# Altium schematic symbol library Seeed-OPL-Resistor.SCHLIB: 324 symbols
Pins are listed as number, name and electrical type; pins without a type are passive.

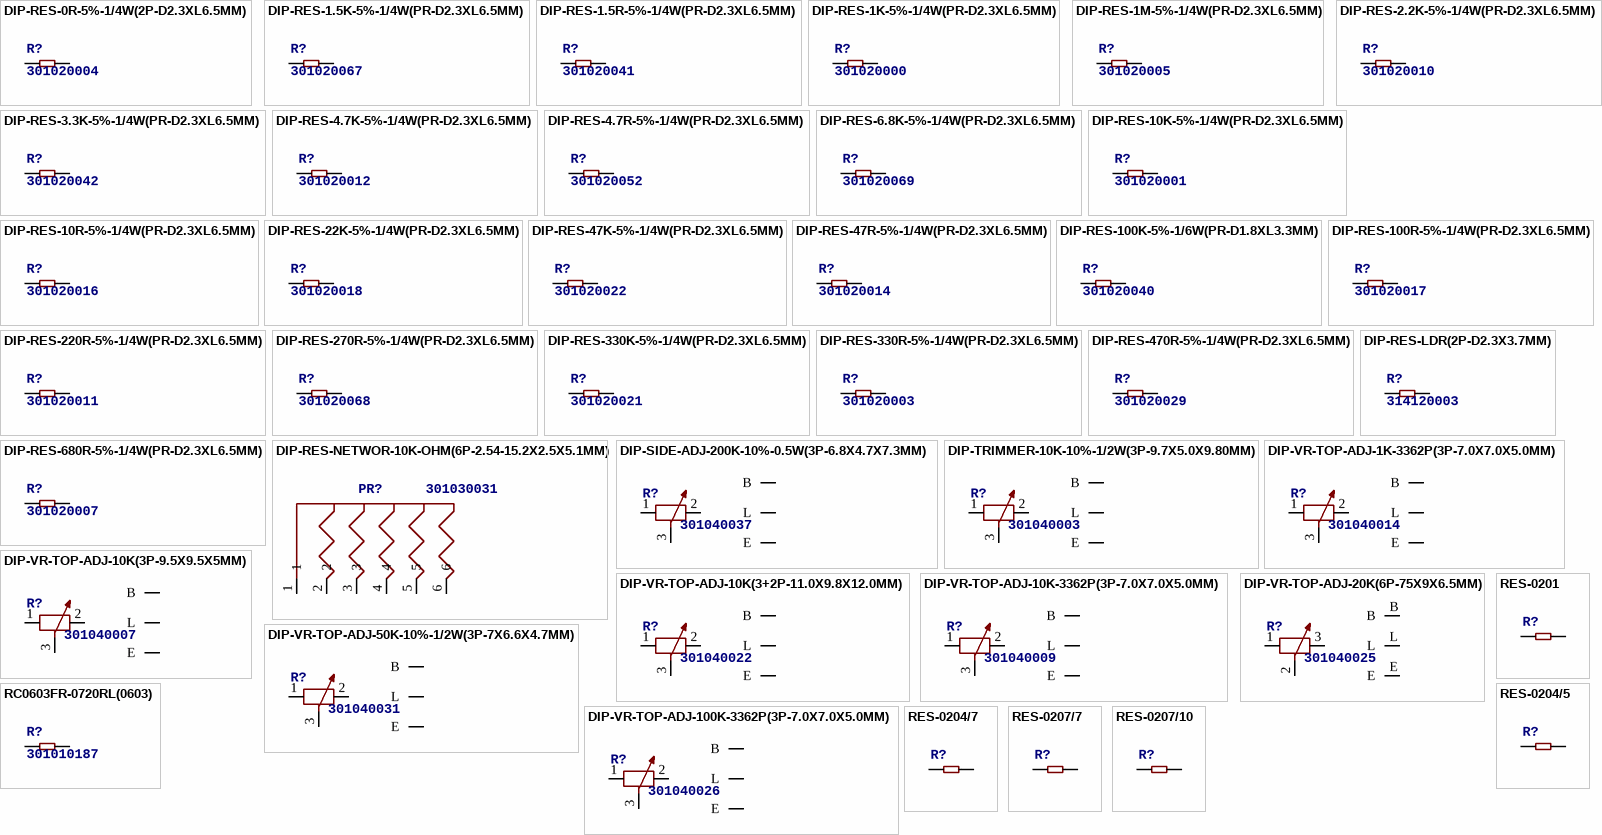
[diagram p0: symbols DIP-RES-0R-5%-1/4W(2P-D2.3XL6.5MM) to RES-0207/10]

## DIP-RES-0R-5%-1/4W(2P-D2.3XL6.5MM)
designator R?, comment 301020004
MPN: FHCFR-1/4W-000J
footprint PR-D2.3XL6.5MM
pins: 1, 2

## DIP-RES-1.5K-5%-1/4W(PR-D2.3XL6.5MM)
designator R?, comment 301020067
MPN: FHCFR-1/4W-152J
footprint PR-D2.3XL6.5MM
pins: 1, 2

## DIP-RES-1.5R-5%-1/4W(PR-D2.3XL6.5MM)
designator R?, comment 301020041
MPN: FHCFR-1/4W-1R5J
footprint PR-D2.3XL6.5MM
pins: 1, 2

## DIP-RES-1K-5%-1/4W(PR-D2.3XL6.5MM)
designator R?, comment 301020000
MPN: FHCFR-1/4W-102J
footprint PR-D2.3XL6.5MM
pins: 1, 2

## DIP-RES-1M-5%-1/4W(PR-D2.3XL6.5MM)
designator R?, comment 301020005
MPN: FHCFR-1/4W-105J
footprint PR-D2.3XL6.5MM
pins: 1, 2

## DIP-RES-2.2K-5%-1/4W(PR-D2.3XL6.5MM)
designator R?, comment 301020010
MPN: FHCFR-1/4W-222J
footprint PR-D2.3XL6.5MM
pins: 1, 2

## DIP-RES-3.3K-5%-1/4W(PR-D2.3XL6.5MM)
designator R?, comment 301020042
MPN: FHCFR-1/4W-332J
footprint PR-D2.3XL6.5MM
pins: 1, 2

## DIP-RES-4.7K-5%-1/4W(PR-D2.3XL6.5MM)
designator R?, comment 301020012
MPN: FHCFR-1/4W-472J
footprint PR-D2.3XL6.5MM
pins: 1, 2

## DIP-RES-4.7R-5%-1/4W(PR-D2.3XL6.5MM)
designator R?, comment 301020052
MPN: FHCFR-1/4W-4R7J
footprint PR-D2.3XL6.5MM
pins: 1, 2

## DIP-RES-6.8K-5%-1/4W(PR-D2.3XL6.5MM)
designator R?, comment 301020069
MPN: FHCFR-1/4W-682J
footprint PR-D2.3XL6.5MM
pins: 1, 2

## DIP-RES-10K-5%-1/4W(PR-D2.3XL6.5MM)
designator R?, comment 301020001
footprint PR-D2.3XL6.5MM
pins: 1, 2

## DIP-RES-10R-5%-1/4W(PR-D2.3XL6.5MM)
designator R?, comment 301020016
MPN: FHCFR-1/4W-100J
footprint PR-D2.3XL6.5MM
pins: 1, 2

## DIP-RES-22K-5%-1/4W(PR-D2.3XL6.5MM)
designator R?, comment 301020018
MPN: FHCFR-1/4W-223J
footprint PR-D2.3XL6.5MM
pins: 1, 2

## DIP-RES-47K-5%-1/4W(PR-D2.3XL6.5MM)
designator R?, comment 301020022
MPN: FHCFR-1/4W-473J
footprint PR-D2.3XL6.5MM
pins: 1, 2

## DIP-RES-47R-5%-1/4W(PR-D2.3XL6.5MM)
designator R?, comment 301020014
MPN: FHCFR-1/4W-470J
footprint PR-D2.3XL6.5MM
pins: 1, 2

## DIP-RES-100K-5%-1/6W(PR-D1.8XL3.3MM)
designator R?, comment 301020040
MPN: FHCFR-1/6W-104J--
footprint PR-D1.8*L3.3MM
pins: 5 2, 6 1

## DIP-RES-100R-5%-1/4W(PR-D2.3XL6.5MM)
designator R?, comment 301020017
MPN: FHCFR-1/4W-101J
footprint PR-D2.3XL6.5MM
pins: 1, 2

## DIP-RES-220R-5%-1/4W(PR-D2.3XL6.5MM)
designator R?, comment 301020011
MPN: FHCFR-1/4W-221J
footprint PR-D2.3XL6.5MM
pins: 1, 2

## DIP-RES-270R-5%-1/4W(PR-D2.3XL6.5MM)
designator R?, comment 301020068
MPN: FHCFR-1/4W-271J
footprint PR-D2.3XL6.5MM
pins: 1, 2

## DIP-RES-330K-5%-1/4W(PR-D2.3XL6.5MM)
designator R?, comment 301020021
MPN: FHCFR-1/4W-334J
footprint PR-D2.3XL6.5MM
pins: 1, 2

## DIP-RES-330R-5%-1/4W(PR-D2.3XL6.5MM)
designator R?, comment 301020003
MPN: FHCFR-1/4W-331J
footprint PR-D2.3XL6.5MM
pins: 1, 2

## DIP-RES-470R-5%-1/4W(PR-D2.3XL6.5MM)
designator R?, comment 301020029
MPN: FHCFR-1/4W-471J
footprint PR-D2.3XL6.5MM
pins: 1, 2

## DIP-RES-680R-5%-1/4W(PR-D2.3XL6.5MM)
designator R?, comment 301020007
MPN: FHCFR-1/4W-681J
footprint PR-D2.3XL6.5MM
pins: 1, 2

## DIP-RES-LDR(2P-D2.3X3.7MM)
designator R?, comment 314120003
MPN: LDR-VT90N2
footprint PR-2.8-4.2X4.9MM
pins: 1, 2

## DIP-RES-NETWOR-10K-OHM(6P-2.54-15.2X2.5X5.1MM)
designator PR?, comment 301030031
MPN: 4606X-101-RC
footprint PR6-2.54-15.2X2.5X5.1MM
pins: 1, 2, 3, 4, 5, 6

## DIP-SIDE-ADJ-200K-10%-0.5W(3P-6.8X4.7X7.3MM)
designator R?, comment 301040037
MPN: JML3266W-200K
footprint ADJR3-6.8X4.7X7.3MM
pins: 1, 2 3, 3 2, ?1 B, ?2 L, ?3 E

## DIP-TRIMMER-10K-10%-1/2W(3P-9.7X5.0X9.80MM)
designator R?, comment 301040003
MPN: T93YA103KT20
footprint ADJRP3-9.70XW5.0X9.80MM
pins: 1, 2 3, 3 2, ?1 B, ?2 L, ?3 E

## DIP-VR-TOP-ADJ-1K-3362P(3P-7.0X7.0X5.0MM)
designator R?, comment 301040014
MPN: SX3362P
footprint ADJR3-7.0X7.0X5.0MM
pins: 1, 2 3, 3 2, ?1 B, ?2 L, ?3 E

## DIP-VR-TOP-ADJ-10K(3+2P-11.0X9.8X12.0MM)
designator R?, comment 301040022
MPN: WH09-2-103
footprint ADJR2+3P-11.0X9.8X12.0MM
pins: 1, 2 3, 3 2, ?1 B, ?2 L, ?3 E

## DIP-VR-TOP-ADJ-10K(3P-9.5X9.5X5MM)
designator R?, comment 301040007
MPN: 3386U-103
footprint ADJR3-9.5X9.5X10.5MM
pins: 1, 2 3, 3 2, ?1 B, ?2 L, ?3 E

## DIP-VR-TOP-ADJ-10K-3362P(3P-7.0X7.0X5.0MM)
designator R?, comment 301040009
MPN: SX3362P
footprint ADJR3-7.0X7.0X5.0MM
pins: 1, 2 3, 3 2, ?1 B, ?2 L, ?3 E

## DIP-VR-TOP-ADJ-20K(6P-75X9X6.5MM)
designator R?, comment 301040025
MPN: PTL60-10O0-203B2
footprint ADJR6-75X9X7MM
pins: 1, 2, 3, B, E, L

## DIP-VR-TOP-ADJ-50K-10%-1/2W(3P-7X6.6X4.7MM)
designator R?, comment 301040031
MPN: 3362P-1-503LF
footprint ADJR3-2.54-7X6.6X4.7MM
pins: 1, 2 3, 3 2, ?1 B, ?2 L, ?3 E

## DIP-VR-TOP-ADJ-100K-3362P(3P-7.0X7.0X5.0MM)
designator R?, comment 301040026
MPN: SX3362P
footprint ADJR3-7.0X7.0X5.0MM
pins: 1, 2 3, 3 2, ?1 B, ?2 L, ?3 E

## RC0603FR-0720RL(0603)
designator R?, comment 301010187
MPN: RC0603FR-07270KL
footprint R0603
pins: 1, 2

## RES-0201
designator R?
footprint R0201
pins: 1, 2

## RES-0204/5
designator R?
footprint PR-D1.8*L3.3MM
pins: 5 2, 6 1

## RES-0204/7
designator R?
footprint R0204_7
pins: 1, 2

## RES-0207/7
designator R?
footprint R0207_7
pins: 1, 2

## RES-0207/10
designator R?
footprint PR-D2.3XL6.5MM
pins: 1, 2

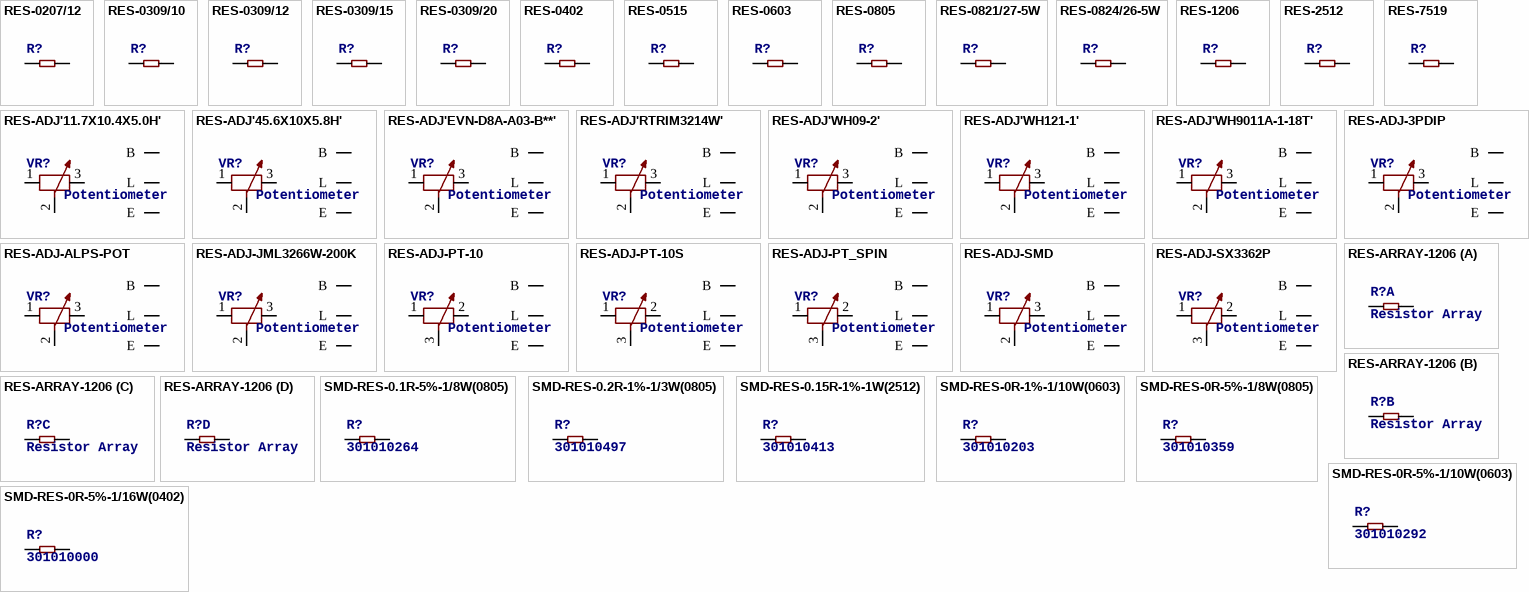
[diagram p1: symbols RES-0207/12 to SMD-RES-0R-5%-1/16W(0402)]

## RES-0207/12
designator R?
footprint R0207_12
pins: 1, 2

## RES-0309/10
designator R?
footprint R0309_10
pins: 1, 2

## RES-0309/12
designator R?
footprint R0309_12
pins: 1, 2

## RES-0309/15
designator R?
footprint R0309_15
pins: 1, 2

## RES-0309/20
designator R?
footprint R0309_20
pins: 1, 2

## RES-0402
designator R?
footprint R0402
pins: 1, 2

## RES-0515
designator R?
footprint R0515_20.4
pins: P$1 1, P$2 2

## RES-0603
designator R?
footprint R0603
pins: 1, 2

## RES-0805
designator R?
footprint R0805
pins: 1, 2

## RES-0821/27-5W
designator R?
footprint R0821_27
pins: P$1 1, P$2 2

## RES-0824/26-5W
designator R?
footprint R0824_26
pins: 1, 2

## RES-1206
designator R?
footprint R1206
pins: 1, 2

## RES-2512
designator R?
footprint R2512
pins: 1, 2

## RES-7519
designator R?
footprint R7519_60.4
pins: 1 2 1, 3 4 2

## RES-ADJ'11.7X10.4X5.0H'
designator VR?, comment Potentiometer
footprint ADJR2+3P-11.7X10.4X5.0MM
pins: 1, 2, 3, ?1 B, ?2 L, ?3 E

## RES-ADJ'45.6X10X5.8H'
designator VR?, comment Potentiometer
footprint ADJR3-45.6X10.0X5.8MM
pins: 1, 2, 3, ?1 B, ?2 L, ?3 E

## RES-ADJ'EVN-D8A-A03-B**'
designator VR?, comment Potentiometer
footprint ADJR3-6.7X6.4MM
pins: 1, 2, 3, ?1 B, ?2 L, ?3 E

## RES-ADJ'RTRIM3214W'
designator VR?, comment Potentiometer
footprint ADJR3-SMD-4.6X3.7MM
pins: 1, 2, 3, ?1 B, ?2 L, ?3 E

## RES-ADJ'WH09-2'
designator VR?, comment Potentiometer
footprint ADJR2+3P-11.0X9.8X12.0MM
pins: 1, 2, 3, ?1 B, ?2 L, ?3 E

## RES-ADJ'WH121-1'
designator VR?, comment Potentiometer
footprint ADJR2+3P-16.0X12.0X18.0MM
pins: 1, 2, 3, ?1 B, ?2 L, ?3 E

## RES-ADJ'WH9011A-1-18T'
designator VR?, comment Potentiometer
footprint ADJR3-9.5X7.05X11.35MM-90D
pins: 1, 2, 3, ?1 B, ?2 L, ?3 E

## RES-ADJ-3PDIP
designator VR?, comment Potentiometer
footprint ADJR2+3P-10.4X5.6MM-90D
pins: 1, 2, 3, ?1 B, ?2 L, ?3 E

## RES-ADJ-ALPS-POT
designator VR?, comment Potentiometer
footprint ADJR2+3P-13.6X12.4MM
pins: 1, 2, 3, ?1 B, ?2 L, ?3 E

## RES-ADJ-JML3266W-200K
designator VR?, comment Potentiometer
footprint ADJR3-6.8X4.7X7.3MM
pins: 1, 2, 3, ?1 B, ?2 L, ?3 E

## RES-ADJ-PT-10
designator VR?, comment Potentiometer
footprint ADJR3-D11.0MM
pins: 1, 2 3, 3 2, ?1 B, ?2 L, ?3 E

## RES-ADJ-PT-10S
designator VR?, comment Potentiometer
footprint ADJR3-10.16X5.08MM
pins: 1, 2 3, 3 2, ?1 B, ?2 L, ?3 E

## RES-ADJ-PT_SPIN
designator VR?, comment Potentiometer
footprint ADJR3-17.8X5.08MM-90D
pins: 1, 2 3, 3 2, ?1 B, ?2 L, ?3 E

## RES-ADJ-SMD
designator VR?, comment Potentiometer
footprint ADJR3-SMD-3.6X3.3MM
pins: 1, 2, 3, ?1 B, ?2 L, ?3 E

## RES-ADJ-SX3362P
designator VR?, comment Potentiometer
footprint ADJR3-7.0X7.0X5.0MM
pins: 1, 2 3, 3 2, ?1 B, ?2 L, ?3 E

## RES-ARRAY-1206
designator R?, comment Resistor Array
footprint RA1206-8
part A pins: 1, 8 2
part B pins: 2 1, 7 2
part C pins: 3 1, 6 2
part D pins: 4 1, 5 2

## SMD-RES-0.1R-5%-1/8W(0805)
designator R?, comment 301010264
MPN: RL0805JR-070R1L
footprint R0805
pins: 1, 2

## SMD-RES-0.2R-1%-1/3W(0805)
designator R?, comment 301010497
MPN: RL0805FR-070R2L
footprint R0805
pins: 1, 2

## SMD-RES-0.15R-1%-1W(2512)
designator R?, comment 301010413
MPN: RL2512FK-070R15L
footprint R2512
pins: 1, 2

## SMD-RES-0R-1%-1/10W(0603)
designator R?, comment 301010203
MPN: AC0603FR-070RL
footprint R0603
pins: 1, 2

## SMD-RES-0R-5%-1/8W(0805)
designator R?, comment 301010359
MPN: RC0805JR-070RL
footprint R0805
pins: 1, 2

## SMD-RES-0R-5%-1/10W(0603)
designator R?, comment 301010292
MPN: RC0603JR-070RL
footprint R0603
pins: 1, 2

## SMD-RES-0R-5%-1/16W(0402)
designator R?, comment 301010000
MPN: RC0402JR-070RL
footprint R0402
pins: 1, 2

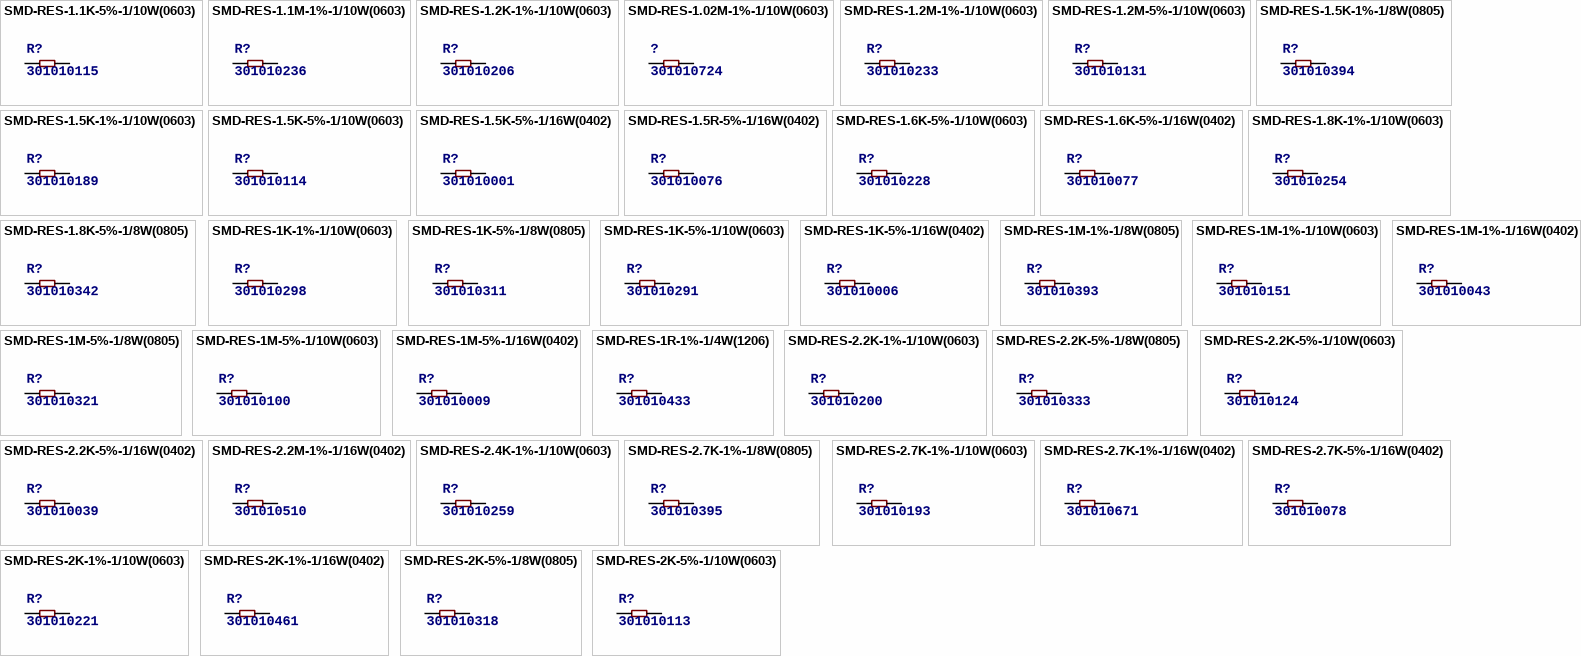
[diagram p2: symbols SMD-RES-1.1K-5%-1/10W(0603) to SMD-RES-2K-5%-1/10W(0603)]

## SMD-RES-1.1K-5%-1/10W(0603)
designator R?, comment 301010115
MPN: RC0603JR-071K1L
footprint R0603
pins: 1, 2

## SMD-RES-1.1M-1%-1/10W(0603)
designator R?, comment 301010236
MPN: RC0603FR-071M1L
footprint R0603
pins: 1, 2

## SMD-RES-1.2K-1%-1/10W(0603)
designator R?, comment 301010206
MPN: RC0603FR-071K2L
footprint R0603
pins: 1, 2

## SMD-RES-1.02M-1%-1/10W(0603)
designator ?, comment 301010724
MPN: RC0603FR-071M02L
footprint R0603
pins: 1, 2

## SMD-RES-1.2M-1%-1/10W(0603)
designator R?, comment 301010233
MPN: RC0603FR-071M2L
footprint R0603
pins: 1, 2

## SMD-RES-1.2M-5%-1/10W(0603)
designator R?, comment 301010131
MPN: RC0603JR-071M2L
footprint R0603
pins: 1, 2

## SMD-RES-1.5K-1%-1/8W(0805)
designator R?, comment 301010394
MPN: RC0805FR-071K5L
footprint R0805
pins: 1, 2

## SMD-RES-1.5K-1%-1/10W(0603)
designator R?, comment 301010189
MPN: RC0603FR-071K5L
footprint R0603
pins: 1, 2

## SMD-RES-1.5K-5%-1/10W(0603)
designator R?, comment 301010114
MPN: RC0603JR-071K5L
footprint R0603
pins: 1, 2

## SMD-RES-1.5K-5%-1/16W(0402)
designator R?, comment 301010001
MPN: RC0402JR-071K5L
footprint R0402
pins: 1, 2

## SMD-RES-1.5R-5%-1/16W(0402)
designator R?, comment 301010076
MPN: RC0402JR-071R5L
footprint R0402
pins: 1, 2

## SMD-RES-1.6K-5%-1/10W(0603)
designator R?, comment 301010228
MPN: RC0603JR-071K6L
footprint R0603
pins: 1, 2

## SMD-RES-1.6K-5%-1/16W(0402)
designator R?, comment 301010077
MPN: RC0402JR-071K6L
footprint R0402
pins: 1, 2

## SMD-RES-1.8K-1%-1/10W(0603)
designator R?, comment 301010254
MPN: RC0603FR-071K8L
footprint R0603
pins: 1, 2

## SMD-RES-1.8K-5%-1/8W(0805)
designator R?, comment 301010342
MPN: RC0805JR-071K8L
footprint R0805
pins: 1, 2

## SMD-RES-1K-1%-1/10W(0603)
designator R?, comment 301010298
MPN: RC0603FR-071KL
footprint R0603
pins: 1, 2

## SMD-RES-1K-5%-1/8W(0805)
designator R?, comment 301010311
MPN: RC0805JR-071KL
footprint R0805
pins: 1, 2

## SMD-RES-1K-5%-1/10W(0603)
designator R?, comment 301010291
MPN: RC0603JR-071KL
footprint R0603
pins: 1, 2

## SMD-RES-1K-5%-1/16W(0402)
designator R?, comment 301010006
MPN: RC0402JR-071KL
footprint R0402
pins: 1, 2

## SMD-RES-1M-1%-1/8W(0805)
designator R?, comment 301010393
MPN: ERJ-6ENF1004V
footprint R0805
pins: 1, 2

## SMD-RES-1M-1%-1/10W(0603)
designator R?, comment 301010151
MPN: RC0603FR-071ML
footprint R0603
pins: 1, 2

## SMD-RES-1M-1%-1/16W(0402)
designator R?, comment 301010043
MPN: RC0402FR-071ML
footprint R0402
pins: 1, 2

## SMD-RES-1M-5%-1/8W(0805)
designator R?, comment 301010321
MPN: RC0805JR-071ML
footprint R0805
pins: 1, 2

## SMD-RES-1M-5%-1/10W(0603)
designator R?, comment 301010100
MPN: RC0603JR-071ML
footprint R0603
pins: 1, 2

## SMD-RES-1M-5%-1/16W(0402)
designator R?, comment 301010009
MPN: RC0402JR-071ML
footprint R0402
pins: 1, 2

## SMD-RES-1R-1%-1/4W(1206)
designator R?, comment 301010433
MPN: RC1206FR-071RL
footprint R1206
pins: 1, 2

## SMD-RES-2.2K-1%-1/10W(0603)
designator R?, comment 301010200
MPN: RC0603FR-072K2L
footprint R0603
pins: 1, 2

## SMD-RES-2.2K-5%-1/8W(0805)
designator R?, comment 301010333
MPN: RC0805JR-072K2L
footprint R0805
pins: 1, 2

## SMD-RES-2.2K-5%-1/10W(0603)
designator R?, comment 301010124
MPN: RC0603JR-072K2L
footprint R0603
pins: 1, 2

## SMD-RES-2.2K-5%-1/16W(0402)
designator R?, comment 301010039
MPN: RC0402JR-072K2L
footprint R0402
pins: 1, 2

## SMD-RES-2.2M-1%-1/16W(0402)
designator R?, comment 301010510
MPN: RC0402FR-072M2L
footprint R0402
pins: 1, 2

## SMD-RES-2.4K-1%-1/10W(0603)
designator R?, comment 301010259
MPN: RC0603FR-072K4L
footprint R0603
pins: 1, 2

## SMD-RES-2.7K-1%-1/8W(0805)
designator R?, comment 301010395
MPN: RC0805FR-072K7L
footprint R0805
pins: 1, 2

## SMD-RES-2.7K-1%-1/10W(0603)
designator R?, comment 301010193
MPN: RC0603FR-072K7L
footprint R0603
pins: 1, 2

## SMD-RES-2.7K-1%-1/16W(0402)
designator R?, comment 301010671
MPN: RC0402FR-072K7L
footprint R0402
pins: 1, 2

## SMD-RES-2.7K-5%-1/16W(0402)
designator R?, comment 301010078
MPN: RC0402JR-072K7L
footprint R0402
pins: 1, 2

## SMD-RES-2K-1%-1/10W(0603)
designator R?, comment 301010221
MPN: RC0603FR-072KL
footprint R0603
pins: 1, 2

## SMD-RES-2K-1%-1/16W(0402)
designator R?, comment 301010461
MPN: RC0402FR-072KL
footprint R0402
pins: 1, 2

## SMD-RES-2K-5%-1/8W(0805)
designator R?, comment 301010318
MPN: RC0805JR-072KL
footprint R0805
pins: 1, 2

## SMD-RES-2K-5%-1/10W(0603)
designator R?, comment 301010113
MPN: RC0603JR-072KL
footprint R0603
pins: 1, 2

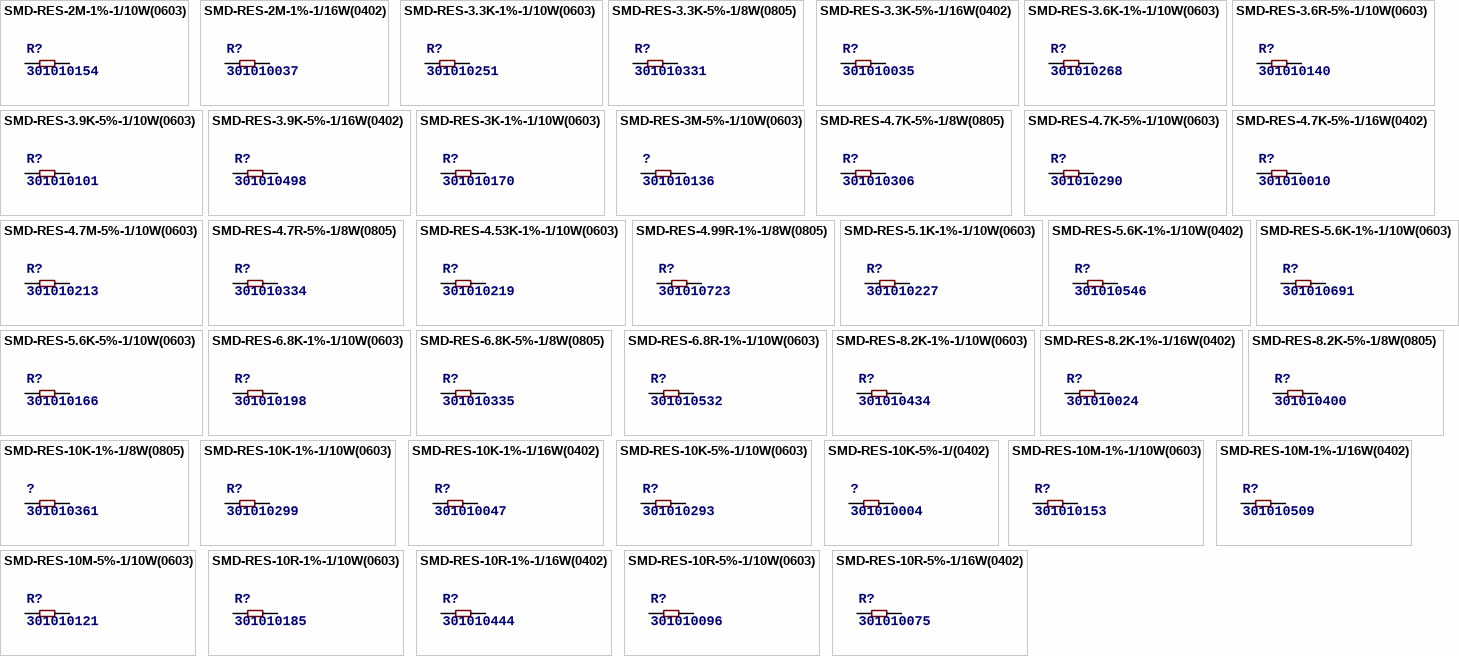
[diagram p3: symbols SMD-RES-2M-1%-1/10W(0603) to SMD-RES-10R-5%-1/16W(0402)]

## SMD-RES-2M-1%-1/10W(0603)
designator R?, comment 301010154
MPN: RC0603FR-072ML
footprint R0603
pins: 1, 2

## SMD-RES-2M-1%-1/16W(0402)
designator R?, comment 301010037
MPN: RC0402FR-072ML
footprint R0402
pins: 1, 2

## SMD-RES-3.3K-1%-1/10W(0603)
designator R?, comment 301010251
MPN: RC0603FR-073K3L
footprint R0603
pins: 1, 2

## SMD-RES-3.3K-5%-1/8W(0805)
designator R?, comment 301010331
MPN: RC0805JR-073K3L
footprint R0805
pins: 1, 2

## SMD-RES-3.3K-5%-1/16W(0402)
designator R?, comment 301010035
MPN: RC0402JR-073K3L
footprint R0402
pins: 1, 2

## SMD-RES-3.6K-1%-1/10W(0603)
designator R?, comment 301010268
MPN: RC0603FR-073K6L
footprint R0603
pins: 1, 2

## SMD-RES-3.6R-5%-1/10W(0603)
designator R?, comment 301010140
MPN: RC0603JR-073R6L
footprint R0603
pins: 1, 2

## SMD-RES-3.9K-5%-1/10W(0603)
designator R?, comment 301010101
MPN: RC0603JR-073K9L
footprint R0603
pins: 1, 2

## SMD-RES-3.9K-5%-1/16W(0402)
designator R?, comment 301010498
MPN: RC0402JR-073K9L
footprint R0402
pins: 1, 2

## SMD-RES-3K-1%-1/10W(0603)
designator R?, comment 301010170
MPN: RC0603FR-073KL
footprint R0603
pins: 1, 2

## SMD-RES-3M-5%-1/10W(0603)
designator ?, comment 301010136
MPN: RC0603JR-073ML
footprint R0603
pins: 1, 2

## SMD-RES-4.7K-5%-1/8W(0805)
designator R?, comment 301010306
MPN: RC0805JR-074K7L
footprint R0805
pins: 1, 2

## SMD-RES-4.7K-5%-1/10W(0603)
designator R?, comment 301010290
MPN: RC0603JR-074K7L
footprint R0603
pins: 1, 2

## SMD-RES-4.7K-5%-1/16W(0402)
designator R?, comment 301010010
MPN: RC0402JR-074K7L
footprint R0402
pins: 1, 2

## SMD-RES-4.7M-5%-1/10W(0603)
designator R?, comment 301010213
MPN: RC0603JR-074M7L
footprint R0603
pins: 1, 2

## SMD-RES-4.7R-5%-1/8W(0805)
designator R?, comment 301010334
MPN: RC0805JR-074R7L
footprint R0805
pins: 1, 2

## SMD-RES-4.53K-1%-1/10W(0603)
designator R?, comment 301010219
MPN: RC0603FR-074K53L
footprint R0603
pins: 1, 2

## SMD-RES-4.99R-1%-1/8W(0805)
designator R?, comment 301010723
MPN: RC0805FR-074R99L
footprint R0805
pins: 1, 2

## SMD-RES-5.1K-1%-1/10W(0603)
designator R?, comment 301010227
MPN: RC0603FR-075K1L
footprint R0603
pins: 1, 2

## SMD-RES-5.6K-1%-1/10W(0402)
designator R?, comment 301010546
MPN: CRCW04025K60FKED
footprint R0402
pins: 1, 2

## SMD-RES-5.6K-1%-1/10W(0603)
designator R?, comment 301010691
MPN: RC0603FR-075K6L
footprint R0603
pins: 1, 2

## SMD-RES-5.6K-5%-1/10W(0603)
designator R?, comment 301010166
MPN: RC0603JR-075K6L
footprint R0603
pins: 1, 2

## SMD-RES-6.8K-1%-1/10W(0603)
designator R?, comment 301010198
MPN: RC0805JR-07220KL
footprint R0603
pins: 1, 2

## SMD-RES-6.8K-5%-1/8W(0805)
designator R?, comment 301010335
MPN: RC0805JR-076K8L
footprint R0805
pins: 1, 2

## SMD-RES-6.8R-1%-1/10W(0603)
designator R?, comment 301010532
MPN: RC0603FR-076R8L
footprint R0603
pins: 1, 2

## SMD-RES-8.2K-1%-1/10W(0603)
designator R?, comment 301010434
MPN: RC0603FR-078K2L
footprint R0603
pins: 1, 2

## SMD-RES-8.2K-1%-1/16W(0402)
designator R?, comment 301010024
MPN: RC0402FR-078K2L
footprint R0402
pins: 1, 2

## SMD-RES-8.2K-5%-1/8W(0805)
designator R?, comment 301010400
MPN: RC0805JR-078K2L
footprint R0805
pins: 1, 2

## SMD-RES-10K-1%-1/8W(0805)
designator ?, comment 301010361
MPN: RC0805FR-0710KL
footprint R0805
pins: 1, 2

## SMD-RES-10K-1%-1/10W(0603)
designator R?, comment 301010299
MPN: RC0603FR-0710KL
footprint R0603
pins: 1, 2

## SMD-RES-10K-1%-1/16W(0402)
designator R?, comment 301010047
MPN: RC0402FR-0710KL
footprint R0402
pins: 1, 2

## SMD-RES-10K-5%-1/10W(0603)
designator R?, comment 301010293
MPN: RC0603JR-0710KL
footprint R0603
pins: 1, 2

## SMD-RES-10K-5%-1/(0402)
designator ?, comment 301010004
MPN: RC0402JR-0710KL
footprint R0402
pins: 1, 2

## SMD-RES-10M-1%-1/10W(0603)
designator R?, comment 301010153
MPN: RC0603FR-0710ML
footprint R0603
pins: 1, 2

## SMD-RES-10M-1%-1/16W(0402)
designator R?, comment 301010509
MPN: RC0402FR-0710ML
footprint R0402
pins: 1, 2

## SMD-RES-10M-5%-1/10W(0603)
designator R?, comment 301010121
MPN: RC0603JR-0710ML
footprint R0603
pins: 1, 2

## SMD-RES-10R-1%-1/10W(0603)
designator R?, comment 301010185
MPN: RC0603FR-0710RL
footprint R0603
pins: 1, 2

## SMD-RES-10R-1%-1/16W(0402)
designator R?, comment 301010444
MPN: RC0402FR-0710RL
footprint R0402
pins: 1, 2

## SMD-RES-10R-5%-1/10W(0603)
designator R?, comment 301010096
MPN: RC0603JR-0710RL
footprint R0603
pins: 1, 2

## SMD-RES-10R-5%-1/16W(0402)
designator R?, comment 301010075
MPN: RC0402JR-0710RL
footprint R0402
pins: 1, 2

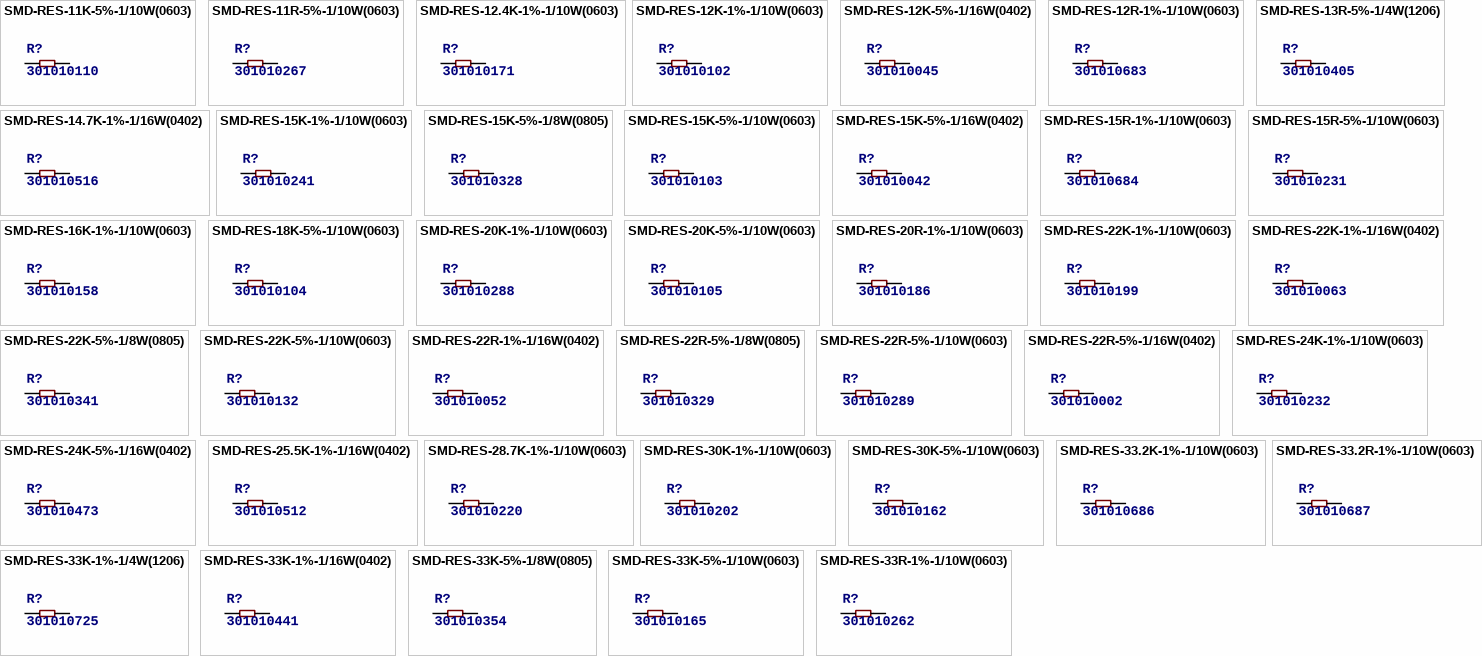
[diagram p4: symbols SMD-RES-11K-5%-1/10W(0603) to SMD-RES-33R-1%-1/10W(0603)]

## SMD-RES-11K-5%-1/10W(0603)
designator R?, comment 301010110
MPN: RC0603JR-0711KL
footprint R0603
pins: 1, 2

## SMD-RES-11R-5%-1/10W(0603)
designator R?, comment 301010267
MPN: RC0603JR-0711RL
footprint R0603
pins: 1, 2

## SMD-RES-12.4K-1%-1/10W(0603)
designator R?, comment 301010171
MPN: RC0603FR-0712K4L
footprint R0603
pins: 1, 2

## SMD-RES-12K-1%-1/10W(0603)
designator R?, comment 301010102
MPN: RC0603FR-0712KL
footprint R0603
pins: 1, 2

## SMD-RES-12K-5%-1/16W(0402)
designator R?, comment 301010045
MPN: RC0402JR-0712KL
footprint R0402
pins: 1, 2

## SMD-RES-12R-1%-1/10W(0603)
designator R?, comment 301010683
MPN: RC0603FR-0712RL
footprint R0603
pins: 1, 2

## SMD-RES-13R-5%-1/4W(1206)
designator R?, comment 301010405
MPN: RC1206JR-0713RL
footprint R1206
pins: 1, 2

## SMD-RES-14.7K-1%-1/16W(0402)
designator R?, comment 301010516
MPN: RC0402FR-0714K7L
footprint R0402
pins: 1, 2

## SMD-RES-15K-1%-1/10W(0603)
designator R?, comment 301010241
MPN: RC0603FR-0715KL
footprint R0603
pins: 1, 2

## SMD-RES-15K-5%-1/8W(0805)
designator R?, comment 301010328
MPN: RC0805JR-0715KL
footprint R0805
pins: 1, 2

## SMD-RES-15K-5%-1/10W(0603)
designator R?, comment 301010103
MPN: RC0603JR-0715KL
footprint R0603
pins: 1, 2

## SMD-RES-15K-5%-1/16W(0402)
designator R?, comment 301010042
MPN: RC0402JR-0715KL
footprint R0402
pins: 1, 2

## SMD-RES-15R-1%-1/10W(0603)
designator R?, comment 301010684
MPN: RC0603FR-0715RL
footprint R0603
pins: 1, 2

## SMD-RES-15R-5%-1/10W(0603)
designator R?, comment 301010231
MPN: RC0603JR-0715RL
footprint R0603
pins: 1, 2

## SMD-RES-16K-1%-1/10W(0603)
designator R?, comment 301010158
MPN: RC0603FR-0716KL
footprint R0603
pins: 1, 2

## SMD-RES-18K-5%-1/10W(0603)
designator R?, comment 301010104
MPN: RC0603JR-0718KL
footprint R0603
pins: 1, 2

## SMD-RES-20K-1%-1/10W(0603)
designator R?, comment 301010288
MPN: RC0603FR-0720KL
footprint R0603
pins: 1, 2

## SMD-RES-20K-5%-1/10W(0603)
designator R?, comment 301010105
MPN: RC0603JR-0720KL
footprint R0603
pins: 1, 2

## SMD-RES-20R-1%-1/10W(0603)
designator R?, comment 301010186
MPN: RC0603FR-0720RL
footprint R0603
pins: 1, 2

## SMD-RES-22K-1%-1/10W(0603)
designator R?, comment 301010199
MPN: RC0603FR-0722KL
footprint R0603
pins: 1, 2

## SMD-RES-22K-1%-1/16W(0402)
designator R?, comment 301010063
MPN: RC0402FR-0722KL
footprint R0402
pins: 1, 2

## SMD-RES-22K-5%-1/8W(0805)
designator R?, comment 301010341
MPN: RC0805JR-0722KL
footprint R0805
pins: 1, 2

## SMD-RES-22K-5%-1/10W(0603)
designator R?, comment 301010132
MPN: RC0603JR-0722KL
footprint R0603
pins: 1, 2

## SMD-RES-22R-1%-1/16W(0402)
designator R?, comment 301010052
MPN: RC0402FR-0722RL
footprint R0402
pins: 1, 2

## SMD-RES-22R-5%-1/8W(0805)
designator R?, comment 301010329
MPN: RC0805JR-0722RL
footprint R0805
pins: 1, 2

## SMD-RES-22R-5%-1/10W(0603)
designator R?, comment 301010289
MPN: RC0603JR-0722RL
footprint R0603
pins: 1, 2

## SMD-RES-22R-5%-1/16W(0402)
designator R?, comment 301010002
MPN: RC0402JR-0722RL
footprint R0402
pins: 1, 2

## SMD-RES-24K-1%-1/10W(0603)
designator R?, comment 301010232
MPN: RC0603FR-0724KL
footprint R0603
pins: 1, 2

## SMD-RES-24K-5%-1/16W(0402)
designator R?, comment 301010473
MPN: RC0402JR-0724KL
footprint R0402
pins: 1, 2

## SMD-RES-25.5K-1%-1/16W(0402)
designator R?, comment 301010512
MPN: RC0402FR-0725K5L
footprint R0402
pins: 1, 2

## SMD-RES-28.7K-1%-1/10W(0603)
designator R?, comment 301010220
MPN: RC0603FR-0728K7
footprint R0603
pins: 1, 2

## SMD-RES-30K-1%-1/10W(0603)
designator R?, comment 301010202
MPN: RC0603FR-0730KL
footprint R0603
pins: 1, 2

## SMD-RES-30K-5%-1/10W(0603)
designator R?, comment 301010162
MPN: RC0603JR-0730KL
footprint R0603
pins: 1, 2

## SMD-RES-33.2K-1%-1/10W(0603)
designator R?, comment 301010686
MPN: RC0603FR-0733K2L
footprint R0603
pins: 1, 2

## SMD-RES-33.2R-1%-1/10W(0603)
designator R?, comment 301010687
MPN: RC0603FR-0733R2L
footprint R0603
pins: 1, 2

## SMD-RES-33K-1%-1/4W(1206)
designator R?, comment 301010725
MPN: RC1206FR-0733KL
footprint R1206
pins: 1, 2

## SMD-RES-33K-1%-1/16W(0402)
designator R?, comment 301010441
MPN: RC0402FR-0733KL
footprint R0402
pins: 1, 2

## SMD-RES-33K-5%-1/8W(0805)
designator R?, comment 301010354
MPN: RC0805JR-0733KL
footprint R0805
pins: 1, 2

## SMD-RES-33K-5%-1/10W(0603)
designator R?, comment 301010165
MPN: RC0603JR-0733KL
footprint R0603
pins: 1, 2

## SMD-RES-33R-1%-1/10W(0603)
designator R?, comment 301010262
MPN: RC0603FR-0733RL
footprint R0603
pins: 1, 2

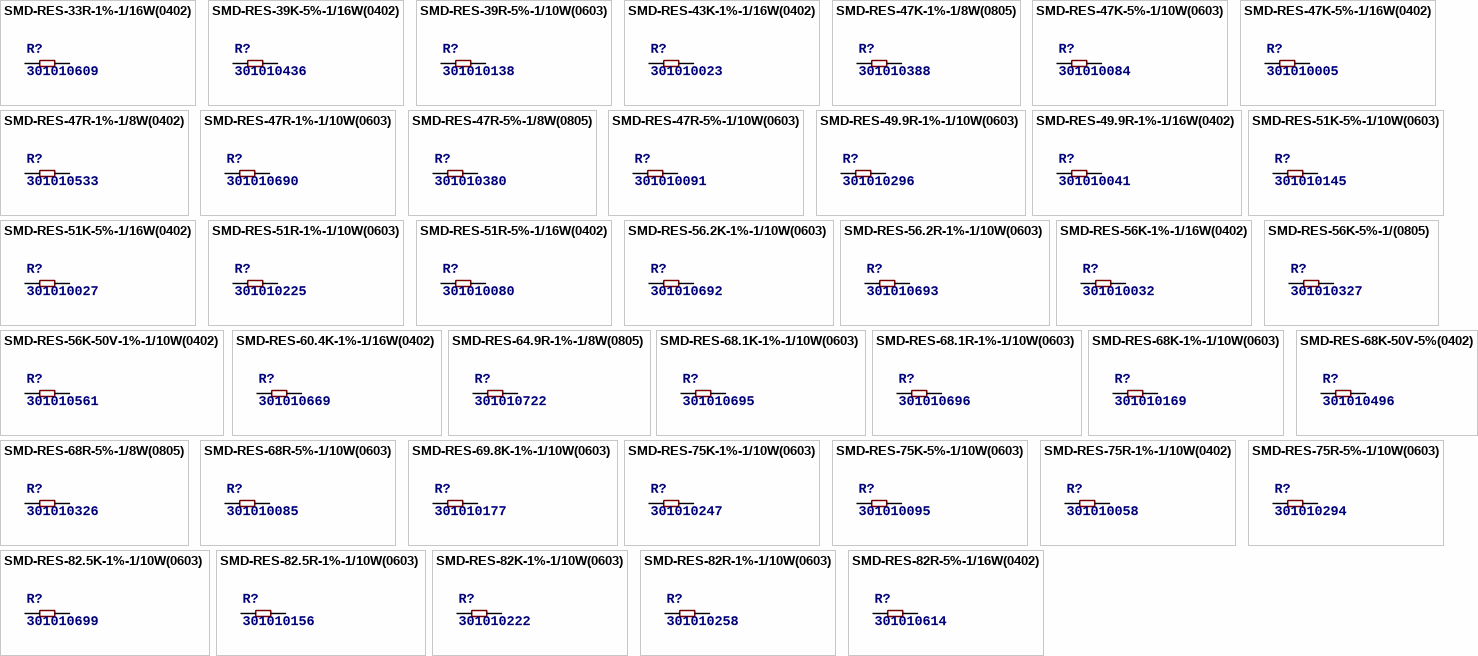
[diagram p5: symbols SMD-RES-33R-1%-1/16W(0402) to SMD-RES-82R-5%-1/16W(0402)]

## SMD-RES-33R-1%-1/16W(0402)
designator R?, comment 301010609
MPN: RC0402FR-0733RL
footprint R0402
pins: 1, 2

## SMD-RES-39K-5%-1/16W(0402)
designator R?, comment 301010436
MPN: RC0402JR-0739KL
footprint R0402
pins: 1, 2

## SMD-RES-39R-5%-1/10W(0603)
designator R?, comment 301010138
MPN: RC0603JR-0739RL
footprint R0603
pins: 1, 2

## SMD-RES-43K-1%-1/16W(0402)
designator R?, comment 301010023
MPN: RC0402FR-0743KL
footprint R0402
pins: 1, 2

## SMD-RES-47K-1%-1/8W(0805)
designator R?, comment 301010388
MPN: RC0805FR-0747KL
footprint R0805
pins: 1, 2

## SMD-RES-47K-5%-1/10W(0603)
designator R?, comment 301010084
MPN: RC0603JR-0747KL
footprint R0603
pins: 1, 2

## SMD-RES-47K-5%-1/16W(0402)
designator R?, comment 301010005
MPN: RC0402JR-0747KL
footprint R0402
pins: 1, 2

## SMD-RES-47R-1%-1/8W(0402)
designator R?, comment 301010533
MPN: CRCW040247R0FKEDHP
footprint R0402
pins: 1, 2

## SMD-RES-47R-1%-1/10W(0603)
designator R?, comment 301010690
MPN: RC0603FR-0747RL
footprint R0603
pins: 1, 2

## SMD-RES-47R-5%-1/8W(0805)
designator R?, comment 301010380
MPN: RC0805JR-0747RL
footprint R0805
pins: 1, 2

## SMD-RES-47R-5%-1/10W(0603)
designator R?, comment 301010091
MPN: RC0603JR-0747RL
footprint R0603
pins: 1, 2

## SMD-RES-49.9R-1%-1/10W(0603)
designator R?, comment 301010296
MPN: RC0603FR-0749R9L
footprint R0603
pins: 1, 2

## SMD-RES-49.9R-1%-1/16W(0402)
designator R?, comment 301010041
MPN: RC0402FR-0749R9L
footprint R0402
pins: 1, 2

## SMD-RES-51K-5%-1/10W(0603)
designator R?, comment 301010145
MPN: RC0603JR-0751KL
footprint R0603
pins: 1, 2

## SMD-RES-51K-5%-1/16W(0402)
designator R?, comment 301010027
MPN: RC0402JR-0751KL
footprint R0402
pins: 1, 2

## SMD-RES-51R-1%-1/10W(0603)
designator R?, comment 301010225
MPN: RC0603FR-0751RL
footprint R0603
pins: 1, 2

## SMD-RES-51R-5%-1/16W(0402)
designator R?, comment 301010080
MPN: RC0402JR-0751RL
footprint R0402
pins: 1, 2

## SMD-RES-56.2K-1%-1/10W(0603)
designator R?, comment 301010692
MPN: RC0603FR-0756K2L
footprint R0603
pins: 1, 2

## SMD-RES-56.2R-1%-1/10W(0603)
designator R?, comment 301010693
MPN: RC0603FR-0756R2L
footprint R0603
pins: 1, 2

## SMD-RES-56K-1%-1/16W(0402)
designator R?, comment 301010032
MPN: RC0402FR-0756KL
footprint R0402
pins: 1, 2

## SMD-RES-56K-5%-1/(0805)
designator R?, comment 301010327
MPN: RC0805JR-0756KL
footprint R0805
pins: 1, 2

## SMD-RES-56K-50V-1%-1/10W(0402)
designator R?, comment 301010561
MPN: ERJ-2RKF5602X
footprint R0402
pins: 1, 2

## SMD-RES-60.4K-1%-1/16W(0402)
designator R?, comment 301010669
MPN: RC0402FR-0760K4L
footprint R0402
pins: 1, 2

## SMD-RES-64.9R-1%-1/8W(0805)
designator R?, comment 301010722
MPN: RC0805FR-0764R9L
footprint R0805
pins: 1, 2

## SMD-RES-68.1K-1%-1/10W(0603)
designator R?, comment 301010695
MPN: RC0603FR-0768K1L
footprint R0603
pins: 1, 2

## SMD-RES-68.1R-1%-1/10W(0603)
designator R?, comment 301010696
MPN: RC0603FR-0768R1L
footprint R0603
pins: 1, 2

## SMD-RES-68K-1%-1/10W(0603)
designator R?, comment 301010169
MPN: RC0603FR-0768KL
footprint R0603
pins: 1, 2

## SMD-RES-68K-50V-5%(0402)
designator R?, comment 301010496
MPN: RC0402JR-0768KL
footprint R0402
pins: 1, 2

## SMD-RES-68R-5%-1/8W(0805)
designator R?, comment 301010326
MPN: RC0805JR-0768RL
footprint R0805
pins: 1, 2

## SMD-RES-68R-5%-1/10W(0603)
designator R?, comment 301010085
MPN: RC0603JR-0768RL
footprint R0603
pins: 1, 2

## SMD-RES-69.8K-1%-1/10W(0603)
designator R?, comment 301010177
MPN: RC0603FR-0769K8L
footprint R0603
pins: 1, 2

## SMD-RES-75K-1%-1/10W(0603)
designator R?, comment 301010247
MPN: RC0603FR-0775KL
footprint R0603
pins: 1, 2

## SMD-RES-75K-5%-1/10W(0603)
designator R?, comment 301010095
MPN: RC0603JR-0775KL
footprint R0603
pins: 1, 2

## SMD-RES-75R-1%-1/10W(0402)
designator R?, comment 301010058
MPN: RC0402FR-0775RL
footprint R0402
pins: 1, 2

## SMD-RES-75R-5%-1/10W(0603)
designator R?, comment 301010294
MPN: RC0603JR-0775RL
footprint R0603
pins: 1, 2

## SMD-RES-82.5K-1%-1/10W(0603)
designator R?, comment 301010699
MPN: RC0603FR-0782K5L
footprint R0603
pins: 1, 2

## SMD-RES-82.5R-1%-1/10W(0603)
designator R?, comment 301010156
MPN: RC0603FR-0782R5L
footprint R0603
pins: 1, 2

## SMD-RES-82K-1%-1/10W(0603)
designator R?, comment 301010222
MPN: RC0603FR-0782KL
footprint R0603
pins: 1, 2

## SMD-RES-82R-1%-1/10W(0603)
designator R?, comment 301010258
MPN: RC0603FR-0782RL
footprint R0603
pins: 1, 2

## SMD-RES-82R-5%-1/16W(0402)
designator R?, comment 301010614
PMN: RC0402JR-0782RL
footprint R0402
pins: 1, 2

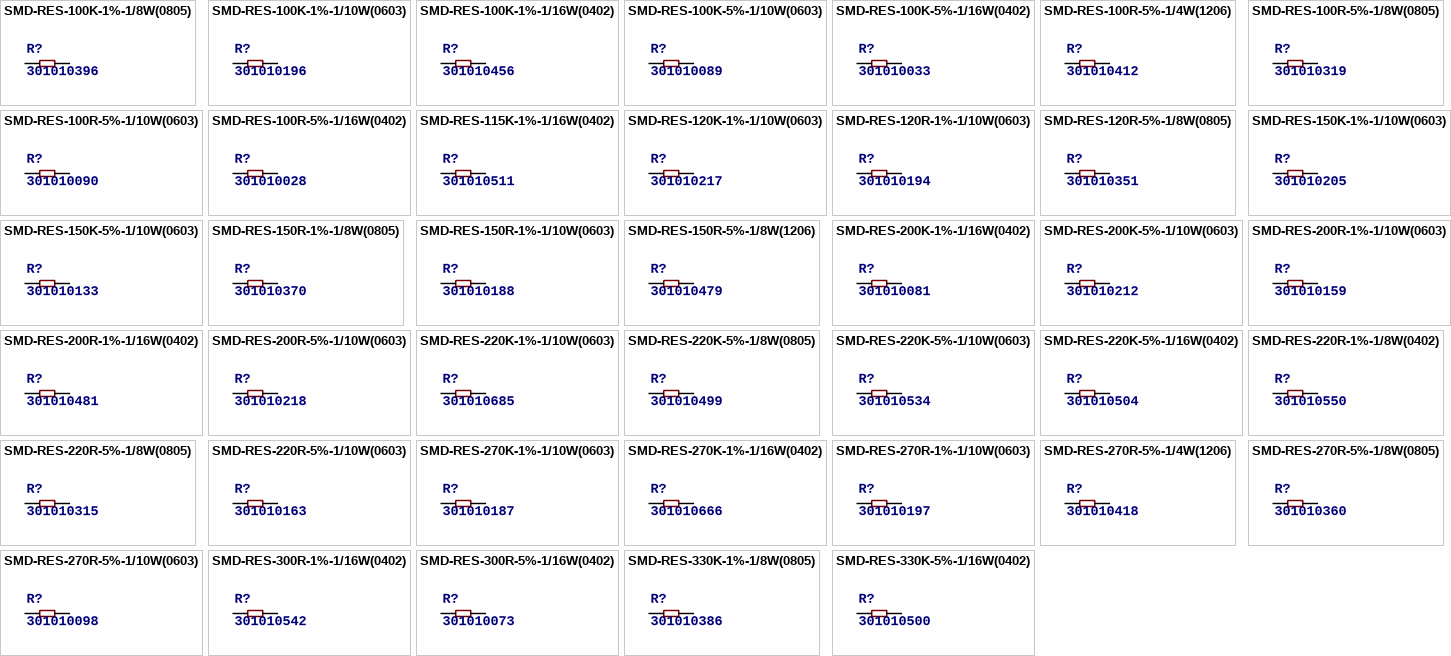
[diagram p6: symbols SMD-RES-100K-1%-1/8W(0805) to SMD-RES-330K-5%-1/16W(0402)]

## SMD-RES-100K-1%-1/8W(0805)
designator R?, comment 301010396
MPN: RC0805FR-07100KL
footprint R0805
pins: 1, 2

## SMD-RES-100K-1%-1/10W(0603)
designator R?, comment 301010196
MPN: RC0603FR-07100KL
footprint R0603
pins: 1, 2

## SMD-RES-100K-1%-1/16W(0402)
designator R?, comment 301010456
MPN: RC0402FR-07100KL
footprint R0402
pins: 1, 2

## SMD-RES-100K-5%-1/10W(0603)
designator R?, comment 301010089
MPN: RC0603JR-07100KL
footprint R0603
pins: 1, 2

## SMD-RES-100K-5%-1/16W(0402)
designator R?, comment 301010033
MPN: RC0402JR-07100KL
footprint R0402
pins: 1, 2

## SMD-RES-100R-5%-1/4W(1206)
designator R?, comment 301010412
MPN: RC1206JR-07100RL
footprint R1206
pins: 1, 2

## SMD-RES-100R-5%-1/8W(0805)
designator R?, comment 301010319
MPN: RC0805JR-07100RL
footprint R0805
pins: 1, 2

## SMD-RES-100R-5%-1/10W(0603)
designator R?, comment 301010090
MPN: RC0603JR-07100RL
footprint R0603
pins: 1, 2

## SMD-RES-100R-5%-1/16W(0402)
designator R?, comment 301010028
MPN: RC0402JR-07100RL
footprint R0402
pins: 1, 2

## SMD-RES-115K-1%-1/16W(0402)
designator R?, comment 301010511
MPN: RC0402FR-07115KL
footprint R0603
pins: 1, 2

## SMD-RES-120K-1%-1/10W(0603)
designator R?, comment 301010217
MPN: RC0603FR-07120KL
footprint R0603
pins: 1, 2

## SMD-RES-120R-1%-1/10W(0603)
designator R?, comment 301010194
MPN: RC0603FR-07120RL
footprint R0603
pins: 1, 2

## SMD-RES-120R-5%-1/8W(0805)
designator R?, comment 301010351
MPN: RC0805JR-07120RL
footprint R0805
pins: 1, 2

## SMD-RES-150K-1%-1/10W(0603)
designator R?, comment 301010205
MPN: RC0603FR-07150KL
footprint R0603
pins: 1, 2

## SMD-RES-150K-5%-1/10W(0603)
designator R?, comment 301010133
MPN: RC0603JR-07150KL
footprint R0603
pins: 1, 2

## SMD-RES-150R-1%-1/8W(0805)
designator R?, comment 301010370
MPN: RC0805FR-07150RL
footprint R0805
pins: 1, 2

## SMD-RES-150R-1%-1/10W(0603)
designator R?, comment 301010188
MPN: RC0603FR-07150RL
footprint R0603
pins: 1, 2

## SMD-RES-150R-5%-1/8W(1206)
designator R?, comment 301010479
MPN: RC1206JR-07150RL
footprint R1206
pins: 1, 2

## SMD-RES-200K-1%-1/16W(0402)
designator R?, comment 301010081
MPN: RC0402FR-07200KL
footprint R0402
pins: 1, 2

## SMD-RES-200K-5%-1/10W(0603)
designator R?, comment 301010212
MPN: RC0603JR-07200KL
footprint R0603
pins: 1, 2

## SMD-RES-200R-1%-1/10W(0603)
designator R?, comment 301010159
MPN: RC0603FR-07200RL
footprint R0603
pins: 1, 2

## SMD-RES-200R-1%-1/16W(0402)
designator R?, comment 301010481
MPN: RC0402FR-07200RL
footprint R0402
pins: 1, 2

## SMD-RES-200R-5%-1/10W(0603)
designator R?, comment 301010218
MPN: RC0603JR-07200RL
footprint R0603
pins: 1, 2

## SMD-RES-220K-1%-1/10W(0603)
designator R?, comment 301010685
MPN: RC0603FR-07220KL
footprint R0603
pins: 1, 2

## SMD-RES-220K-5%-1/8W(0805)
designator R?, comment 301010499
MPN: RC0603JR-07220KL
footprint R0805
pins: 1, 2

## SMD-RES-220K-5%-1/10W(0603)
designator R?, comment 301010534
MPN: RC0805JR-07220KL
footprint R0603
pins: 1, 2

## SMD-RES-220K-5%-1/16W(0402)
designator R?, comment 301010504
MPN: RC0402JR-07220KL
footprint R0402
pins: 1, 2

## SMD-RES-220R-1%-1/8W(0402)
designator R?, comment 301010550
MPN: RC0402FR-07220RL
footprint R0402
pins: 1, 2

## SMD-RES-220R-5%-1/8W(0805)
designator R?, comment 301010315
MPN: RC0805JR-07220RL
footprint R0805
pins: 1, 2

## SMD-RES-220R-5%-1/10W(0603)
designator R?, comment 301010163
MPN: RC0603JR-07220RL
footprint R0603
pins: 1, 2

## SMD-RES-270K-1%-1/10W(0603)
designator R?, comment 301010187
MPN: RC0603FR-07270KL
footprint R0603
pins: 1, 2

## SMD-RES-270K-1%-1/16W(0402)
designator R?, comment 301010666
MPN: RC0402FR-07270KL
footprint R0402
pins: 1, 2

## SMD-RES-270R-1%-1/10W(0603)
designator R?, comment 301010197
MPN: RC0603FR-07270RL
footprint R0603
pins: 1, 2

## SMD-RES-270R-5%-1/4W(1206)
designator R?, comment 301010418
MPN: RC1206JR-07270RL
footprint R0805
pins: 1, 2

## SMD-RES-270R-5%-1/8W(0805)
designator R?, comment 301010360
MPN: RC0805JR-07270RL
footprint R0805
pins: 1, 2

## SMD-RES-270R-5%-1/10W(0603)
designator R?, comment 301010098
MPN: RC0603JR-07270RL
footprint R0603
pins: 1, 2

## SMD-RES-300R-1%-1/16W(0402)
designator R?, comment 301010542
MPN: RC0402FR-07300RL
footprint R0402
pins: 1, 2

## SMD-RES-300R-5%-1/16W(0402)
designator R?, comment 301010073
MPN: RC0402JR-07300RL
footprint R0402
pins: 1, 2

## SMD-RES-330K-1%-1/8W(0805)
designator R?, comment 301010386
MPN: RC0805FR-07330KL
footprint R0805
pins: 1, 2

## SMD-RES-330K-5%-1/16W(0402)
designator R?, comment 301010500
MPN: RC0402JR-07330KL
footprint R0402
pins: 1, 2

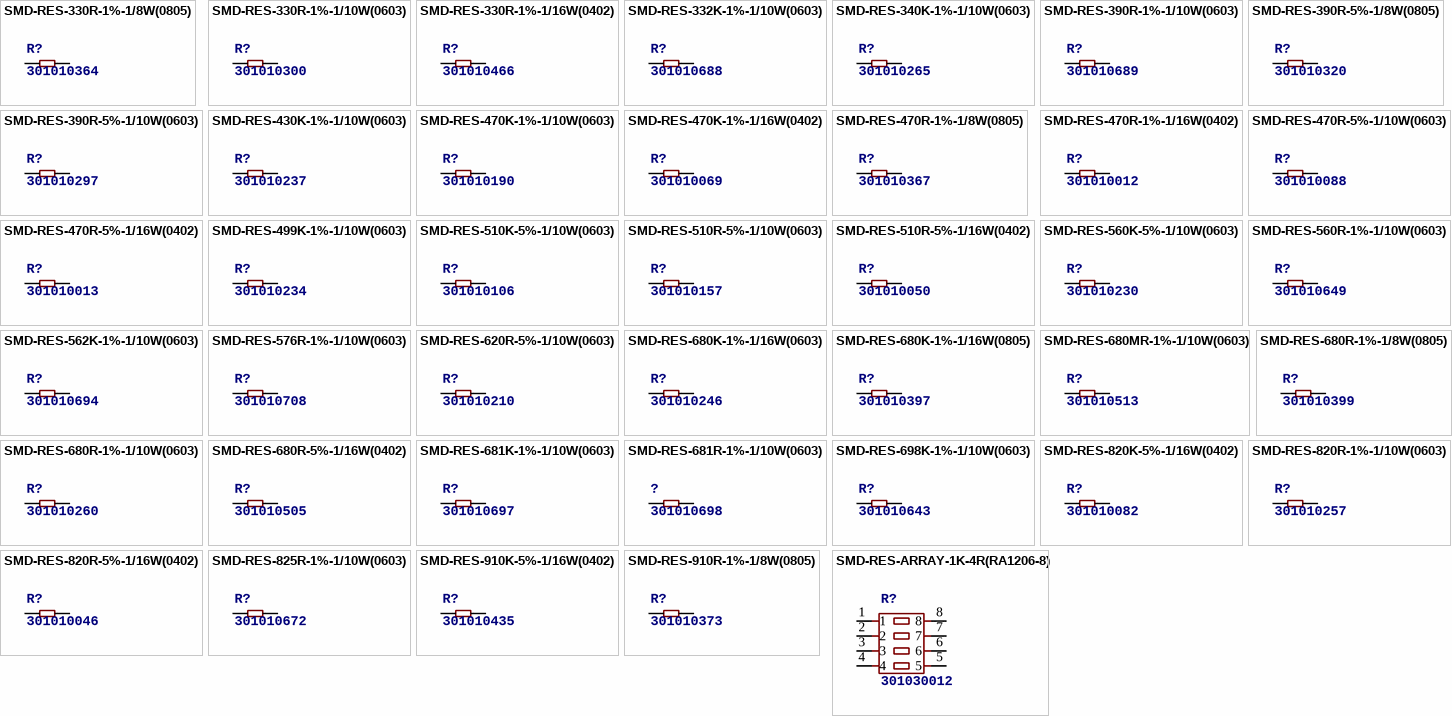
[diagram p7: symbols SMD-RES-330R-1%-1/8W(0805) to SMD-RES-ARRAY-1K-4R(RA1206-8)]

## SMD-RES-330R-1%-1/8W(0805)
designator R?, comment 301010364
MPN: RC0805FR-07330RL
footprint R0805
pins: 1, 2

## SMD-RES-330R-1%-1/10W(0603)
designator R?, comment 301010300
MPN: RC0603FR-07330RL
footprint R0603
pins: 1, 2

## SMD-RES-330R-1%-1/16W(0402)
designator R?, comment 301010466
MPN: RC0402FR-07330RL
footprint R0402
pins: 1, 2

## SMD-RES-332K-1%-1/10W(0603)
designator R?, comment 301010688
MPN: RC0603FR-07332KL
footprint R0603
pins: 1, 2

## SMD-RES-340K-1%-1/10W(0603)
designator R?, comment 301010265
MPN: RC0603FR-07340KL
footprint R0603
pins: 1, 2

## SMD-RES-390R-1%-1/10W(0603)
designator R?, comment 301010689
MPN: RC0603FR-07390RL
footprint R0603
pins: 1, 2

## SMD-RES-390R-5%-1/8W(0805)
designator R?, comment 301010320
MPN: RC0805JR-07390RL
footprint R0805
pins: 1, 2

## SMD-RES-390R-5%-1/10W(0603)
designator R?, comment 301010297
MPN: RC0603JR-07390RL
footprint R0603
pins: 1, 2

## SMD-RES-430K-1%-1/10W(0603)
designator R?, comment 301010237
MPN: RC0603FR-07430KL
footprint R0603
pins: 1, 2

## SMD-RES-470K-1%-1/10W(0603)
designator R?, comment 301010190
MPN: RC0603FR-07470KL
footprint R0603
pins: 1, 2

## SMD-RES-470K-1%-1/16W(0402)
designator R?, comment 301010069
MPN: RC0402FR-07470KL
footprint R0402
pins: 1, 2

## SMD-RES-470R-1%-1/8W(0805)
designator R?, comment 301010367
MPN: RC0805FR-07470RL
footprint R0805
pins: 1, 2

## SMD-RES-470R-1%-1/16W(0402)
designator R?, comment 301010012
MPN: RC0402FR-07470RL
footprint R0402
pins: 1, 2

## SMD-RES-470R-5%-1/10W(0603)
designator R?, comment 301010088
MPN: RC0603JR-07470RL
footprint R0603
pins: 1, 2

## SMD-RES-470R-5%-1/16W(0402)
designator R?, comment 301010013
MPN: RC0402JR-07470RL
footprint R0402
pins: 1, 2

## SMD-RES-499K-1%-1/10W(0603)
designator R?, comment 301010234
MPN: RC0603FR-07499KL
footprint R0603
pins: 1, 2

## SMD-RES-510K-5%-1/10W(0603)
designator R?, comment 301010106
MPN: RC0603JR-07510KL
footprint R0603
pins: 1, 2

## SMD-RES-510R-5%-1/10W(0603)
designator R?, comment 301010157
MPN: RC0603JR-07510RL
footprint R0603
pins: 1, 2

## SMD-RES-510R-5%-1/16W(0402)
designator R?, comment 301010050
MPN: RC0402JR-07510RL
footprint R0402
pins: 1, 2

## SMD-RES-560K-5%-1/10W(0603)
designator R?, comment 301010230
MPN: RC0603JR-07560KL
footprint R0603
pins: 1, 2

## SMD-RES-560R-1%-1/10W(0603)
designator R?, comment 301010649
MPN: RC0603FR-07560RL
footprint R0603
pins: 1, 2

## SMD-RES-562K-1%-1/10W(0603)
designator R?, comment 301010694
MPN: RC0603FR-07562KL
footprint R0603
pins: 1, 2

## SMD-RES-576R-1%-1/10W(0603)
designator R?, comment 301010708
MPN: RC0603FR-07576RL
footprint R0603
pins: 1, 2

## SMD-RES-620R-5%-1/10W(0603)
designator R?, comment 301010210
MPN: RC0603JR-07620RL
footprint R0603
pins: 1, 2

## SMD-RES-680K-1%-1/16W(0603)
designator R?, comment 301010246
MPN: RC0603FR-07680KL
footprint R0603
pins: 1, 2

## SMD-RES-680K-1%-1/16W(0805)
designator R?, comment 301010397
MPN: RC0805FR-07680KL
footprint R0805
pins: 1, 2

## SMD-RES-680MR-1%-1/10W(0603)
designator R?, comment 301010513
MPN: RL0603FR-070R68L
footprint R0603
pins: 1, 2

## SMD-RES-680R-1%-1/8W(0805)
designator R?, comment 301010399
MPN: RC0805FR-07680RL
footprint R0805
pins: 1, 2

## SMD-RES-680R-1%-1/10W(0603)
designator R?, comment 301010260
MPN: RC0603FR-07680RL
footprint R0603
pins: 1, 2

## SMD-RES-680R-5%-1/16W(0402)
designator R?, comment 301010505
MPN: RC0402JR-07680L
footprint R0402
pins: 1, 2

## SMD-RES-681K-1%-1/10W(0603)
designator R?, comment 301010697
MPN: RC0603FR-07681KL
footprint R0603
pins: 1, 2

## SMD-RES-681R-1%-1/10W(0603)
designator ?, comment 301010698
MPN: RC0603FR-07681RL
footprint R0603
pins: ?1 1, ?2 2

## SMD-RES-698K-1%-1/10W(0603)
designator R?, comment 301010643
MPN: RC0603FR-07698KL
footprint R0603
pins: 1, 2

## SMD-RES-820K-5%-1/16W(0402)
designator R?, comment 301010082
MPN: RC0402JR-07820KL
footprint R0402
pins: 1, 2

## SMD-RES-820R-1%-1/10W(0603)
designator R?, comment 301010257
MPN: RC0603FR-07820RL
footprint R0603
pins: 1, 2

## SMD-RES-820R-5%-1/16W(0402)
designator R?, comment 301010046
MPN: RC0402JR-07820RL
footprint R0402
pins: 1, 2

## SMD-RES-825R-1%-1/10W(0603)
designator R?, comment 301010672
MPN: RC0603FR-07825RL
footprint R0603
pins: 1, 2

## SMD-RES-910K-5%-1/16W(0402)
designator R?, comment 301010435
MPN: RC0402JR-07910KR
footprint R0402
pins: 1, 2

## SMD-RES-910R-1%-1/8W(0805)
designator R?, comment 301010373
MPN: RC0805FR-07910RL
footprint R0805
pins: 1, 2

## SMD-RES-ARRAY-1K-4R(RA1206-8)
designator R?, comment 301030012
MPN: Chip-Array-Series-1%
footprint RA1206-8
pins: 1, 2, 3, 4, 5, 6, 7, 8

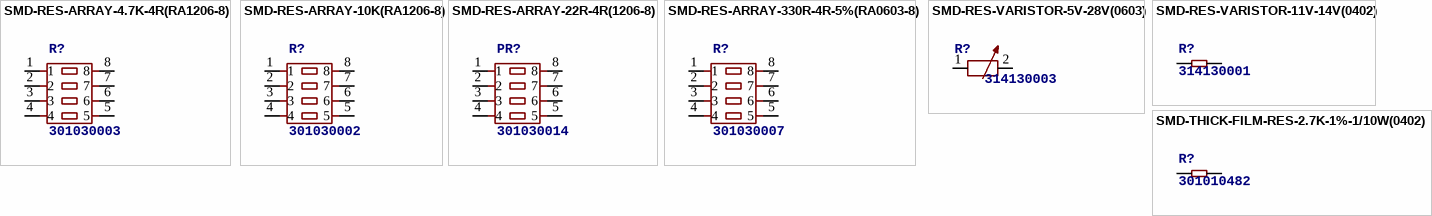
[diagram p8: symbols SMD-RES-ARRAY-4.7K-4R(RA1206-8) to SMD-THICK-FILM-RES-2.7K-1%-1/10W(0402)]

## SMD-RES-ARRAY-4.7K-4R(RA1206-8)
designator R?, comment 301030003
footprint RA1206-8
pins: 1, 2, 3, 4, 5, 6, 7, 8

## SMD-RES-ARRAY-10K(RA1206-8)
designator R?, comment 301030002
footprint RA1206-8
pins: 1, 2, 3, 4, 5, 6, 7, 8

## SMD-RES-ARRAY-22R-4R(1206-8)
designator PR?, comment 301030014
MPN: YC324-JK-0722RL
footprint RA1206-8
pins: 1, 2, 3, 4, 5, 6, 7, 8

## SMD-RES-ARRAY-330R-4R-5%(RA0603-8)
designator R?, comment 301030007
MPN: SMD-RES-Array-330R-4R-5%
footprint RA0603-8
pins: 1, 2, 3, 4, 5, 6, 7, 8

## SMD-RES-VARISTOR-5V-28V(0603)
designator R?, comment 314130003
MPN: CG0603MLC-05E
footprint R0603
pins: 1, 2

## SMD-RES-VARISTOR-11V-14V(0402)
designator R?, comment 314130001
MPN: CG0402MLA-14KG
footprint R0402
pins: 1, 2

## SMD-THICK-FILM-RES-2.7K-1%-1/10W(0402)
designator R?, comment 301010482
MPN: ERJ-2RKF2701X
footprint R0402
pins: 1, 2